# EAGLE library part ADUM5242 (library digital)
ADuM5242: 2 channel digital isolator (Analog Devices) 2 channels right-to-left +5V with integrated DC/DC converter, 10Mbps
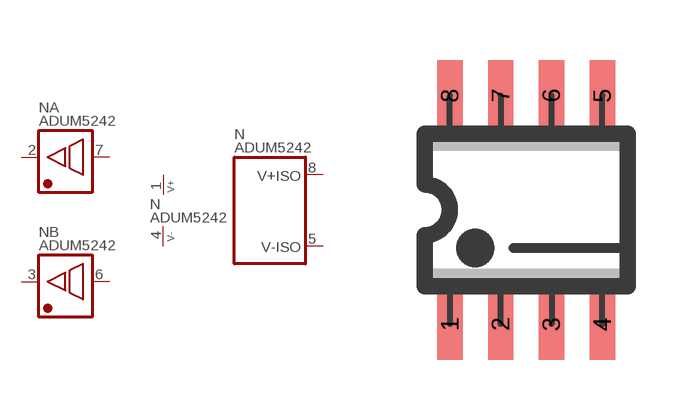
[diagram p60: symbol with the pads of SO08; footprint SO08]

Designator prefix N; gates A=ISO2 B=ISO2 P=V+- C=VISO-OUT

## ADUM5242  [SO08]
1  P:V+  pwr
2  A:OUT  out
3  B:OUT  out
4  P:V-  pwr
5  C:V-ISO  out
6  B:IN  in
7  A:IN  in
8  C:V+ISO  out

## Footprint SO08 (pad centres in mm)
SO-8, SMD SOIC IC package, 8 pins
smd 0.635 x 1.778: 1 -1.905,-2.857; 2 -0.635,-2.857; 3 0.635,-2.857; 4 1.905,-2.857; 5 1.905,2.857; 6 0.635,2.857; 7 -0.635,2.857; 8 -1.905,2.857